# EAGLE library part MCL3535RGB-A1 (library MCL3535RGB-A1)
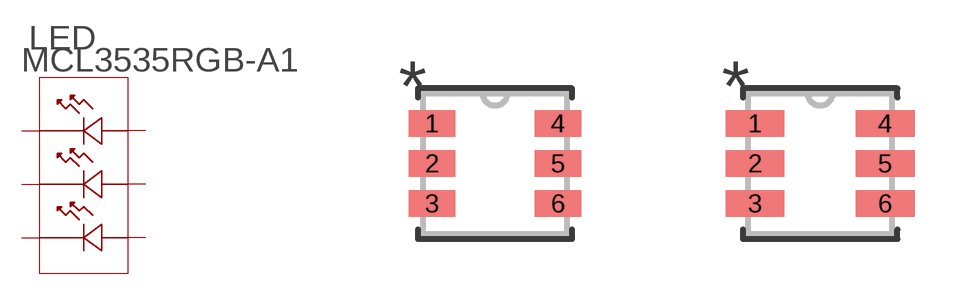
[diagram p0: symbol with the pads of MCL3535RGB-A1_MDS; footprints MCL3535RGB-A1_MDS, MCL3535RGB-A1_MDS-M]

Designator prefix LED

## MCL3535RGB-A1 (COPYRIGHT: Copyright (C) 2023 Ultra Librarian. All rights reserved.; MANUFACTURER_PART_NUMBER: MCL3535RGB-A1; MFR_NAME: Midas)  [MCL3535RGB-A1_MDS]
1  1  pas
2  2  pas
3  3  pas
4  4  pas
5  5  pas
6  6  pas

## MCL3535RGB-A1MCL3535RGB-A1_MDS-M (COPYRIGHT: Copyright (C) 2023 Ultra Librarian. All rights reserved.; MANUFACTURER_PART_NUMBER: MCL3535RGB-A1; MFR_NAME: Midas)  [MCL3535RGB-A1_MDS-M]
Pads as for MCL3535RGB-A1_MDS

## MCL3535RGB-A1MCL3535RGB-A1_MDS-L (COPYRIGHT: Copyright (C) 2023 Ultra Librarian. All rights reserved.; MANUFACTURER_PART_NUMBER: MCL3535RGB-A1; MFR_NAME: Midas)  [MCL3535RGB-A1_MDS-L]
Pads as for MCL3535RGB-A1_MDS

## Footprint MCL3535RGB-A1_MDS (pad centres in mm)
smd 1.168 x 0.66: 1 -1.575,1; 2 -1.575,0; 3 -1.575,-1; 4 1.575,1; 5 1.575,0; 6 1.575,-1

## Footprint MCL3535RGB-A1_MDS-M (pad centres in mm)
smd 1.473 x 0.66: 1 -1.626,1; 2 -1.626,0; 3 -1.626,-1; 4 1.626,1; 5 1.626,0; 6 1.626,-1

## Footprint MCL3535RGB-A1_MDS-L (pad centres in mm)
smd 0.864 x 0.61: 1 -1.524,1; 2 -1.524,0; 3 -1.524,-1; 4 1.524,1; 5 1.524,0; 6 1.524,-1